# EAGLE library part 1-770969-0 (library IowaFormula)
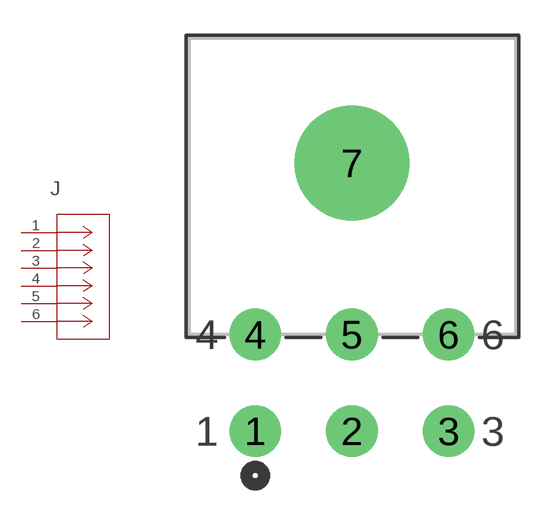
[diagram p7: symbol with the pads of CON6_2X3_P163_RAMNL; footprint CON6_2X3_P163_RAMNL]

Designator prefix J

## 1-770969-0 (MANUFACTURER_PART_NUMBER: 17709690; VENDOR: TE Connectivity)  [CON6_2X3_P163_RAMNL]
1  1  pas
2  2  pas
3  3  pas
4  4  pas
5  5  pas
6  6  pas

## Footprint CON6_2X3_P163_RAMNL (pad centres in mm)
drill 1.473 pad 1.981: 1 -8.28,-4.14; 2 -4.14,-4.14; 3 0,-4.14; 4 -8.28,0; 5 -4.14,0; 6 0,0
drill 3.912 pad 3.912: 7 -4.14,7.341